# EAGLE library part 39-30-?08? (library con-molex-mini-fit)
HEADER
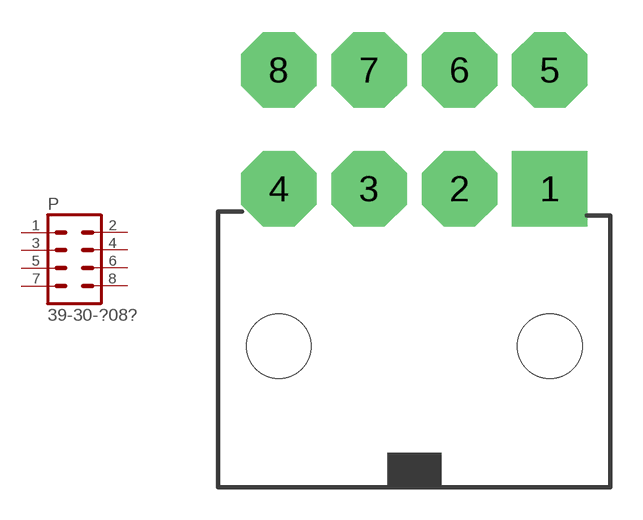
[diagram p1: symbol with the pads of 39-30-?08?; footprint 39-30-?08?]

Designator prefix P

## 39-30-08  [39-30-?08?]
1  1  pas
2  2  pas
3  3  pas
4  4  pas
5  5  pas
6  6  pas
7  7  pas
8  8  pas

## Footprint 39-30-?08? (pad centres in mm)
HEADER
drill 2 pad 3.5 square: 1 6.287,0
drill 2 pad 3.5 octagon: 2 2.095,0; 3 -2.095,0; 4 -6.287,0; 5 6.287,5.512; 6 2.095,5.512; 7 -2.095,5.512; 8 -6.287,5.512
hole 3 at -6.287,-7.3
hole 3 at 6.287,-7.3